# Altium integrated library WS-PBTU_rev15a.intlib: 1 symbol
Pins are listed as number, name and electrical type; pins without a type are passive.

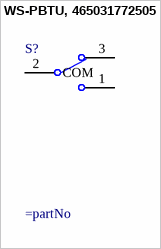
[diagram p0: symbol WS-PBTU, 465031772505]

## WS-PBTU, 465031772505
designator S?
WS-PBTU 9.8 x 18.5 mm THT right angle; Manufacturer: Wurth Elektronik; Part No.: 465031772505; ComponentLink1 Description: Manufacturer; ComponentLink2 Description: Datasheet; Created Date: Dec.2015; ComponentLink1URL: http://www.we-online.com; ComponentLink2URL: http://katalog.we-online.de/em/datasheet/465031772505.pdf; Created by: Baojun Chen
footprint 465031772505 (9.8x18.5mm left angle type, THT, diameter of actuator: 2.8mm, SPDT, with bracket design, Tray)
pins: 1, 2 COM, 3